# EAGLE library part TP4056 (library micwl)
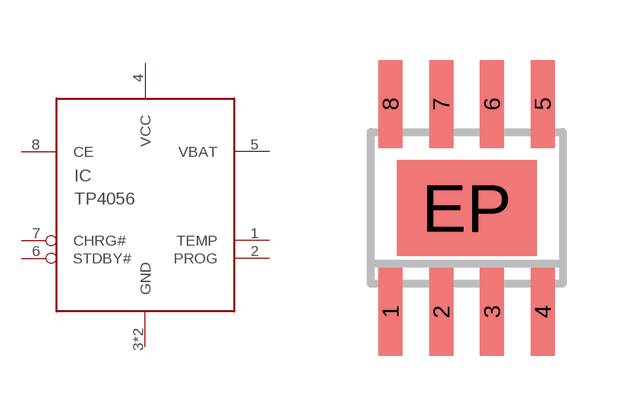
[diagram p1: symbol with the pads of SO-08-EP; footprint SO-08-EP]

Designator prefix IC

## TP4056  [SO-08-EP]
1  TEMP  in
2  PROG  in
3  GND  pwr
4  VCC  pwr
5  VBAT  pas
6  STDBY#  out
7  CHRG#  out
8  CE  in
EP  GND  pwr

## Footprint SO-08-EP (pad centres in mm)
Small Outline Narrow Plastic Gull Wing 150-mil body, package type SN, exposed pad
smd 0.6 x 2.2: 1 -1.905,-2.6; 2 -0.635,-2.6; 3 0.635,-2.6; 4 1.905,-2.6; 5 1.905,2.6; 6 0.635,2.6; 7 -0.635,2.6; 8 -1.905,2.6
smd 3.5 x 2.4: EP 0,0